# EAGLE library part 64902029522 (library Wire-to-Board (rev18a))
WR-MPC4-4.20mm Male Dual Row Angled Header,20 pins=>Code : WR-MPC4_Stiftbuchse_2reihig_abgewinkelt_64902029522 <http://katalog.we-online.de/media/thumbs2/eican/thb_WR-MPC4_Stiftbuchse_2reihig_abgewinkelt_64901029522.jpg> Details see: http://katalog.we-online.de/en/em/MPC4_4_20_MALE_DUAL_ROW_ANGLED_HEADER_6490XX29522 Created 2014-06-06, Karrer Zheng 2014 (C) Würth Elektronik
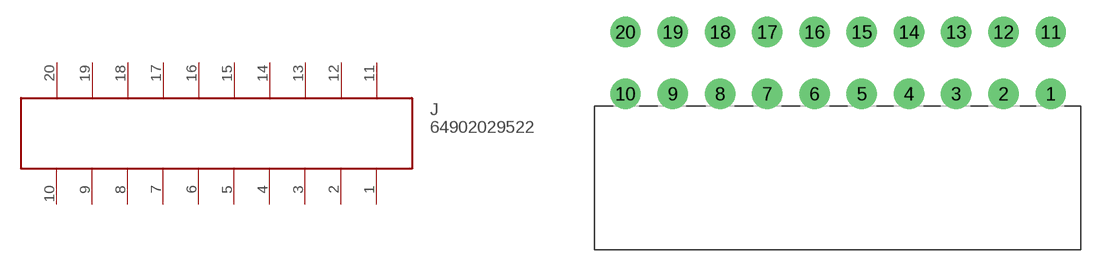
[diagram p314: symbol with the pads of 64902029522; footprint 64902029522]

Designator prefix J

## 64902029522  [64902029522]
1  1
2  2
3  3
4  4
5  5
6  6
7  7
8  8
9  9
10  10
11  11
12  12
13  13
14  14
15  15
16  16
17  17
18  18
19  19
20  20

## Footprint 64902029522 (pad centres in mm)
WR-MPC4-4.20mm Male Dual Row Angled Header,20 pins
drill 1.8: 1 18.945,-2.75; 2 14.745,-2.75; 3 10.545,-2.75; 4 6.345,-2.75; 5 2.145,-2.75; 6 -2.055,-2.75; 7 -6.255,-2.75; 8 -10.455,-2.75; 9 -14.655,-2.75; 10 -18.855,-2.75; 11 18.945,2.75; 12 14.745,2.75; 13 10.545,2.75; 14 6.345,2.75; 15 2.145,2.75; 16 -2.055,2.75; 17 -6.255,2.75; 18 -10.455,2.75; 19 -14.655,2.75; 20 -18.855,2.75